# EAGLE library part 71-10SP-2DS (library switch-grayhill)
Rotary Switch Grayhill 71 Series, 10 Pos, 1 Pole, 2 Deck
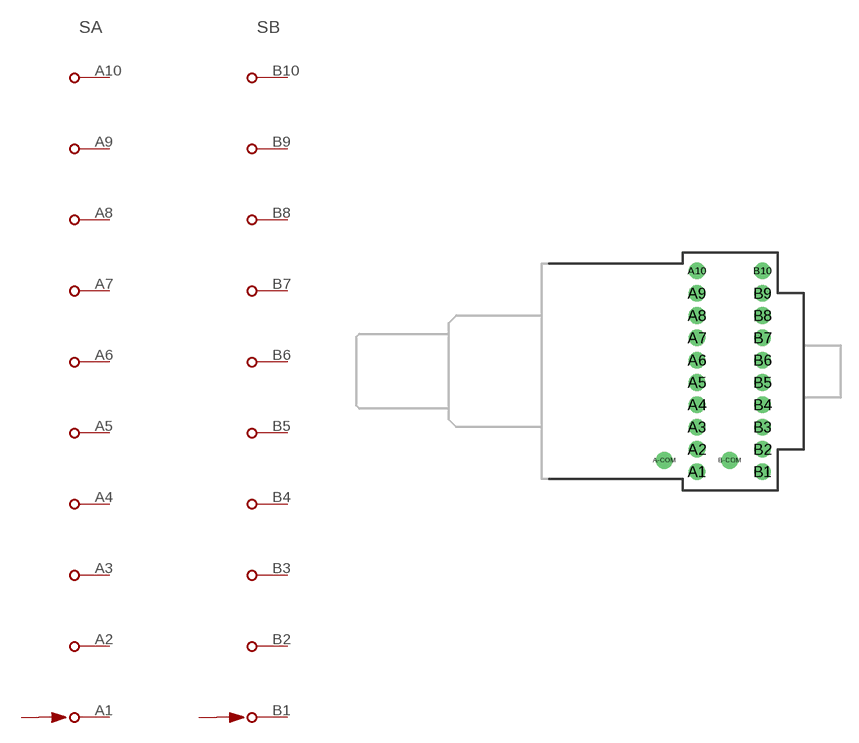
[diagram p5: symbol with the pads of 71-10-2D-2C; footprint 71-10-2D-2C]

Designator prefix S; gates A=71-10-PS B=71-10-PS

## 71-10SP-2DS  [71-10-2D-2C]
A1  A:1  pas
A2  A:2  pas
A3  A:3  pas
A4  A:4  pas
A5  A:5  pas
A6  A:6  pas
A7  A:7  pas
A8  A:8  pas
A9  A:9  pas
A10  A:10  pas
A-COM  A:COM  pas
B1  B:1  pas
B2  B:2  pas
B3  B:3  pas
B4  B:4  pas
B5  B:5  pas
B6  B:6  pas
B7  B:7  pas
B8  B:8  pas
B9  B:9  pas
B10  B:10  pas
B-COM  B:COM  pas

## Footprint 71-10-2D-2C (pad centres in mm)
Grayhill 71 Series
drill 0.813 pad 1.422: A1 2.794,-8.572; A2 2.794,-6.668; A3 2.794,-4.763; A4 2.794,-2.857; A5 2.794,-0.953; A6 2.794,0.953; A7 2.794,2.857; A8 2.794,4.763; A9 2.794,6.668; A10 2.794,8.572; A-COM 0,-7.62; B1 8.382,-8.572; B2 8.382,-6.668; B3 8.382,-4.763; B4 8.382,-2.857; B5 8.382,-0.953; B6 8.382,0.953; B7 8.382,2.857; B8 8.382,4.763; B9 8.382,6.668; B10 8.382,8.572; B-COM 5.588,-7.62